# Altium footprint library SG__PCB_SOT_SC.PcbLib: 28 footprints (part 1 of 2)
Each footprint in its own frame and in the unit in brackets; x right, y up, seen from the top. Pads: shape width x height; smd on the part's side, far side on the other; paste and mask are expansions set on the pad; w line width, h text height; cw(c..) or ccw(c..) is an arc to the next point about the centre after c.
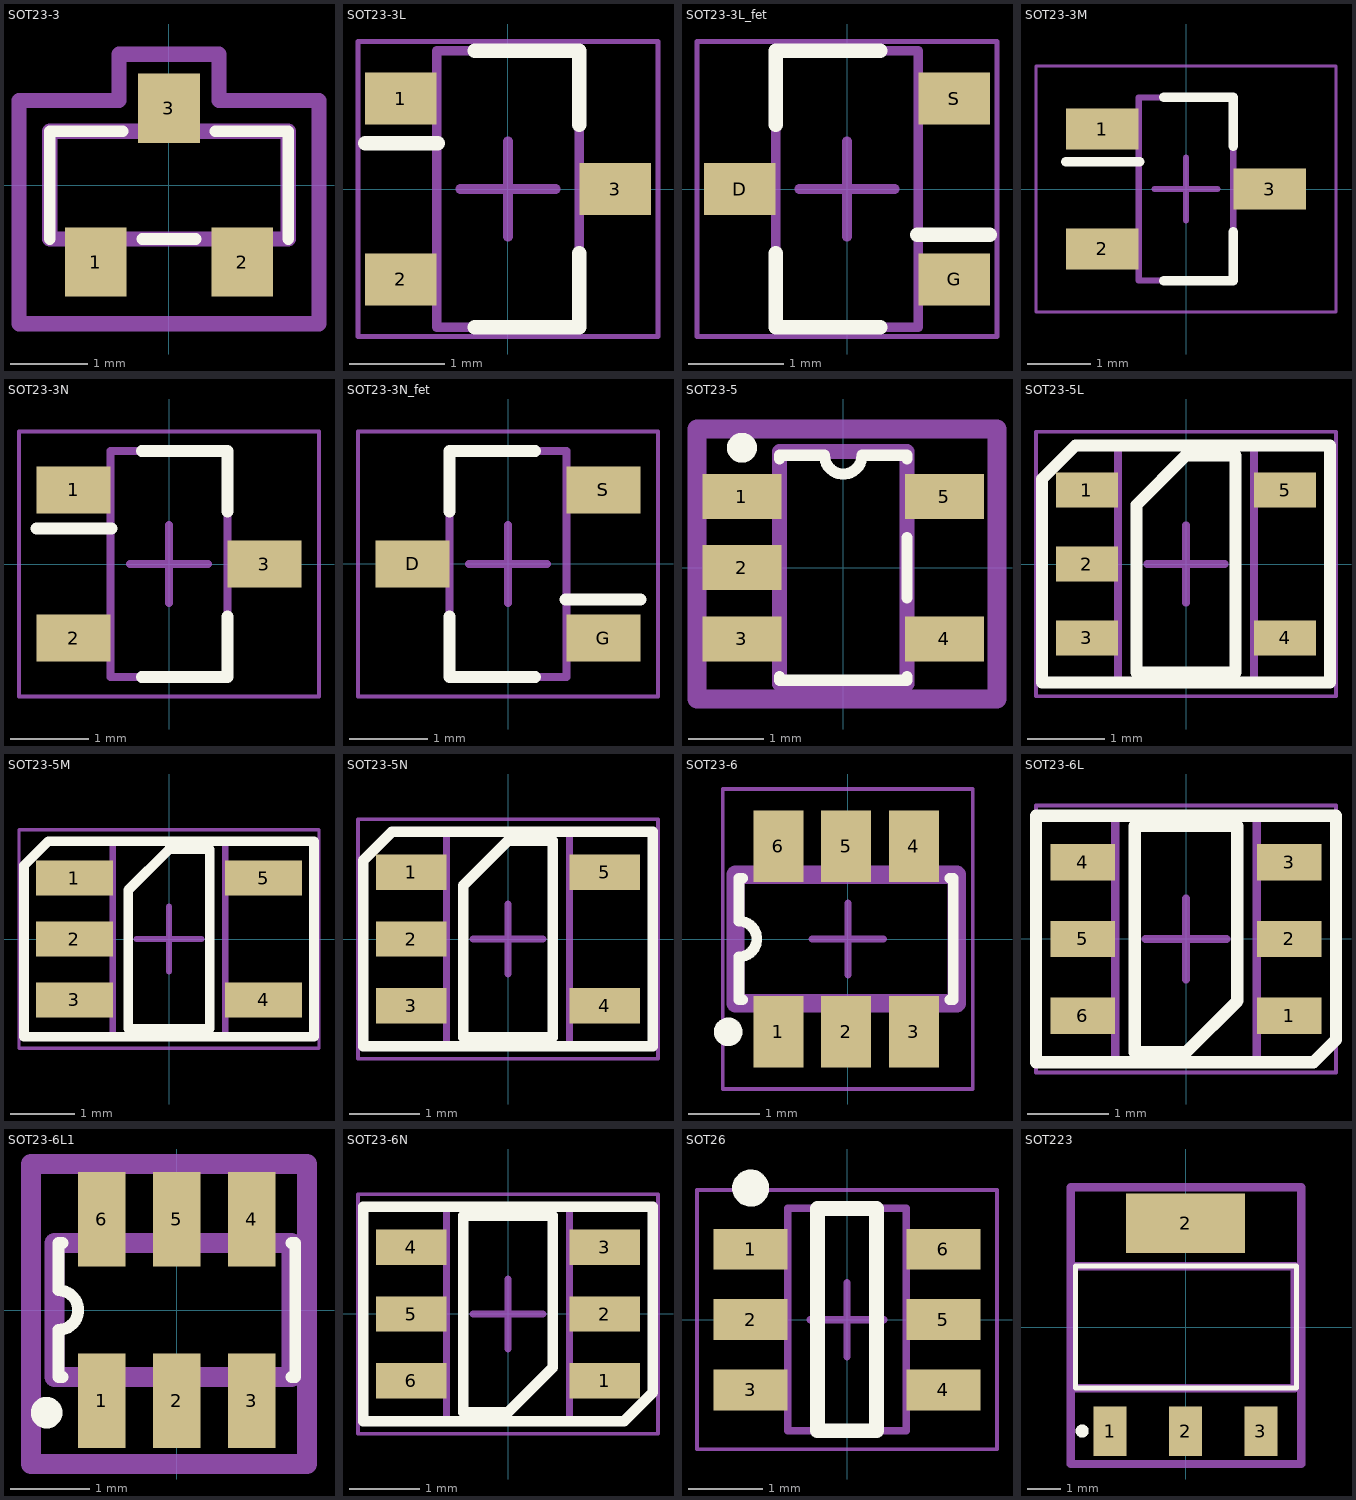
[diagram p0: the footprints below, top view; thin cyan lines are the x and y axes]

## SOT23-3 [mm]
pads (3):
  rect 0.8x0.9 smd mask+0.05: 1(-0.95,-1) 2(0.95,-1) 3(0,1)
Top Overlay:
  lines w0.15: -1.55,-0.7 -1.55,0.7 -0.6,0.7 ; -0.35,-0.7 0.35,-0.7 ; 0.6,0.7 1.55,0.7 1.55,-0.7
Assembly Top:
  lines w0.2: -1.55,-0.7 -1.55,0.7 1.55,0.7 1.55,-0.7 -1.55,-0.7
Courtyard Top:
  lines w0.2: -1.95,-1.8 -1.95,1.1 -0.65,1.1 -0.65,1.7 0.65,1.7 0.65,1.1 1.95,1.1 1.95,-1.8 -1.95,-1.8
3D body "SOT-23-1.STEP": height 0.99, standoff 0.01, extent -1.47,-1.334 1.45,1.214

## SOT23-3L [mm] "SOT23, 3-Leads, Body 2,90x2,45mm, Pitch 0,95mm, IPC High Density"
height 1.1
pads (3):
  rect 0.75x0.55 smd: 1(-1.125,0.95) 2(-1.125,-0.95) 3(1.125,0)
Top Overlay:
  lines w0.152: -1.499,0.483 -0.737,0.483 ; -0.35,-1.45 0.75,-1.45 0.75,-0.675 ; -0.35,1.45 0.75,1.45 0.75,0.675
Assembly Top:
  lines w0.1: -0.75,-1.45 -0.75,1.45 0.75,1.45 0.75,-1.45 -0.75,-1.45
Courtyard Top:
  lines w0.05: -1.575,-1.55 -1.575,1.55 1.575,1.55 1.575,-1.55 -1.575,-1.55
  lines w0.1: -0.5,0 0.5,0 ; 0,-0.5 0,0.5
3D body "SOT95P245X110-3L.step": height 1.1, standoff 0, extent -1.3,-1.45 1.3,1.45

## SOT23-3L_fet [mm] "SOT23, 3-Leads, Body 2,90x2,45mm, Pitch 0,95mm, IPC High Density"
height 1.1
pads (3):
  rect 0.75x0.55 smd: D(-1.125,0) G(1.125,-0.95) S(1.125,0.95)
Top Overlay:
  lines w0.152: -0.75,-0.675 -0.75,-1.45 0.35,-1.45 ; -0.75,0.675 -0.75,1.45 0.35,1.45 ; 0.737,-0.483 1.499,-0.483
Assembly Top:
  lines w0.1: -0.75,-1.45 0.75,-1.45 0.75,1.45 -0.75,1.45 -0.75,-1.45
Courtyard Top:
  lines w0.05: -1.575,-1.55 1.575,-1.55 1.575,1.55 -1.575,1.55 -1.575,-1.55
  lines w0.1: -0.5,0 0.5,0 ; 0,-0.5 0,0.5
3D body "SOT95P245X110-3L.step": height 1.1, standoff 0, extent -1.3,-1.45 1.3,1.45

## SOT23-3M [mm] "SOT23, 3-Leads, Body 2,90x2,45mm, Pitch 0,95mm, IPC Low Density"
height 1.1
pads (3):
  rect 1.15x0.65 smd: 1(-1.325,0.95) 2(-1.325,-0.95) 3(1.325,0)
Top Overlay:
  lines w0.152: -1.905,0.432 -0.737,0.432 ; -0.35,-1.45 0.75,-1.45 0.75,-0.675 ; -0.35,1.45 0.75,1.45 0.75,0.675
Assembly Top:
  lines w0.1: -0.75,-1.45 -0.75,1.45 0.75,1.45 0.75,-1.45 -0.75,-1.45
Courtyard Top:
  lines w0.05: -2.375,-1.95 -2.375,1.95 2.375,1.95 2.375,-1.95 -2.375,-1.95
  lines w0.1: -0.5,0 0.5,0 ; 0,-0.5 0,0.5
3D body "SOT95P245X110-3M.step": height 1.1, standoff 0, extent -1.3,-1.45 1.3,1.45

## SOT23-3N [mm] "SOT23, 3-Leads, Body 2,90x2,45mm, Pitch 0,95mm, IPC Medium Density"
height 1.1
pads (3):
  rect 0.95x0.6 smd: 1(-1.225,0.95) 2(-1.225,-0.95) 3(1.225,0)
Top Overlay:
  lines w0.152: -1.702,0.457 -0.737,0.457 ; -0.35,-1.45 0.75,-1.45 0.75,-0.675 ; -0.35,1.45 0.75,1.45 0.75,0.675
Assembly Top:
  lines w0.1: -0.75,-1.45 0.75,-1.45 0.75,1.45 -0.75,1.45 -0.75,-1.45
Courtyard Top:
  lines w0.05: -1.925,-1.7 1.925,-1.7 1.925,1.7 -1.925,1.7 -1.925,-1.7
  lines w0.1: -0.5,0 0.5,0 ; 0,-0.5 0,0.5
3D body "SOT95P245X110-3N.step": height 1.1, standoff 0, extent -1.3,-1.45 1.3,1.45

## SOT23-3N_fet [mm] "SOT23, 3-Leads, Body 2,90x2,45mm, Pitch 0,95mm, IPC Medium Density"
height 1.1
pads (3):
  rect 0.95x0.6 smd: D(-1.225,0) G(1.225,-0.95) S(1.225,0.95)
Top Overlay:
  lines w0.152: -0.75,-0.675 -0.75,-1.45 0.35,-1.45 ; -0.75,0.675 -0.75,1.45 0.35,1.45 ; 0.737,-0.457 1.702,-0.457
Assembly Top:
  lines w0.1: -0.75,-1.45 -0.75,1.45 0.75,1.45 0.75,-1.45 -0.75,-1.45
Courtyard Top:
  lines w0.05: -1.925,-1.7 -1.925,1.7 1.925,1.7 1.925,-1.7 -1.925,-1.7
  lines w0.1: -0.5,0 0.5,0 ; 0,-0.5 0,0.5
3D body "SOT95P245X110-3N.step": height 1.1, standoff 0, extent -1.3,-1.45 1.3,1.45

## SOT23-5 [mm]
pads (5):
  rect 1.05x0.6 smd mask+0.07: 1(-1.35,0.95) 2(-1.35,0) 3(-1.35,-0.95) 4(1.35,-0.95) 5(1.35,0.95)
Top Overlay:
  circle w0.2: c-1.35,1.6 r0.1
  lines w0.15: -0.85,-1.45 -0.85,-1.5 0.85,-1.5 0.85,-1.45 ; -0.85,1.45 -0.85,1.5 -0.25,1.5 ccw(c0,1.5) 0.25,1.5 0.85,1.5 0.85,1.45 ; 0.85,-0.4 0.85,0.4
Assembly Top:
  lines w0.2: -0.85,-1.55 -0.85,1.55 0.85,1.55 0.85,-1.55 -0.85,-1.55
Courtyard Top:
  lines w0.254: -1.95,-1.75 2.05,-1.75 2.05,1.85 -1.95,1.85 -1.95,-1.75
3D body "SOT23-5.STEP": height 1.24, standoff 0.14, extent -1.353,-1.463 1.447,1.437

## SOT23-5L [mm] "SOT23, 5-Leads, Body 2,90x2,80mm, Pitch 0,95mm, IPC High Density"
height 1.45
pads (5):
  rect 0.8x0.45 smd: 1(-1.275,0.95) 2(-1.275,0) 3(-1.275,-0.95) 4(1.275,-0.95) 5(1.275,0.95)
Top Overlay:
  lines w0.152: -1.854,-1.524 -1.854,1.092 -1.422,1.524 1.854,1.524 1.854,-1.524 0.356,-1.524 -1.854,-1.524 ; -0.635,-1.397 0.635,-1.397 0.635,1.397 0,1.397 -0.635,0.762 -0.635,-1.397
Assembly Top:
  lines w0.1: -0.875,-1.525 0.875,-1.525 0.875,1.525 -0.875,1.525 -0.875,-1.525
Courtyard Top:
  lines w0.05: -1.93,-1.702 1.93,-1.702 1.93,1.702 -1.93,1.702 -1.93,-1.702
  lines w0.1: -0.5,0 0.5,0 ; 0,-0.5 0,0.5
3D body "SOT95P280X145-5L.step": height 1.45, standoff 0, extent -1.5,-1.525 1.5,1.525

## SOT23-5M [mm] "SOT23, 5-Leads, Body 2,90x2,80mm, Pitch 0,95mm, IPC Low Density"
height 1.45
pads (5):
  rect 1.2x0.55 smd: 1(-1.475,0.95) 2(-1.475,0) 3(-1.475,-0.95) 4(1.475,-0.95) 5(1.475,0.95)
Top Overlay:
  lines w0.152: -2.261,-1.524 -2.261,1.143 -1.88,1.524 2.261,1.524 2.261,-1.524 0.356,-1.524 -2.261,-1.524 ; -0.635,-1.397 0.635,-1.397 0.635,1.397 0,1.397 -0.635,0.762 -0.635,-1.397
Assembly Top:
  lines w0.1: -0.875,-1.525 -0.875,1.525 0.875,1.525 0.875,-1.525 -0.875,-1.525
Courtyard Top:
  lines w0.05: -2.337,-1.702 -2.337,1.702 2.337,1.702 2.337,-1.702 -2.337,-1.702
  lines w0.1: -0.5,0 0.5,0 ; 0,-0.5 0,0.5
3D body "SOT95P280X145-5M.step": height 1.45, standoff 0, extent -1.5,-1.525 1.5,1.525

## SOT23-5N [mm] "SOT23, 5-Leads, Body 2,90x2,80mm, Pitch 0,95mm, IPC Medium Density"
height 1.45
pads (5):
  rect 1x0.5 smd: 1(-1.375,0.95) 2(-1.375,0) 3(-1.375,-0.95) 4(1.375,-0.95) 5(1.375,0.95)
Top Overlay:
  lines w0.152: -2.057,-1.524 0.356,-1.524 2.057,-1.524 2.057,1.524 -1.651,1.524 -2.057,1.118 -2.057,-1.524 ; -0.635,-1.397 -0.635,0.762 0,1.397 0.635,1.397 0.635,-1.397 -0.635,-1.397
Assembly Top:
  lines w0.1: -0.875,-1.525 -0.875,1.525 0.875,1.525 0.875,-1.525 -0.875,-1.525
Courtyard Top:
  lines w0.05: -2.134,-1.702 2.134,-1.702 2.134,1.702 -2.134,1.702 -2.134,-1.702
  lines w0.1: -0.5,0 0.5,0 ; 0,-0.5 0,0.5
3D body "SOT95P280X145-5N.step": height 1.45, standoff 0, extent -1.5,-1.525 1.5,1.525

## SOT23-6 [mm]
pads (6):
  rect 0.7x1 smd mask+0.05: 1(-0.975,-1.3) 2(-0.025,-1.3) 3(0.925,-1.3) 4(0.925,1.3) 5(-0.025,1.3) 6(-0.975,1.3)
Top Overlay:
  circle w0.2: c-1.675,-1.3 r0.1
  lines w0.15: -1.475,-0.85 -1.525,-0.85 -1.525,-0.25 ccw(c-1.525,0) -1.525,0.25 -1.525,0.85 -1.475,0.85 ; 1.425,-0.85 1.475,-0.85 1.475,0.85 1.425,0.85
Assembly Top:
  lines w0.254: -1.575,-0.9 1.525,-0.9 1.525,0.9 -1.575,0.9 -1.575,-0.9
Courtyard Top:
  lines w0.05: -1.75,-2.1 1.75,-2.1 1.75,2.1 -1.75,2.1 -1.75,-2.1
  lines w0.1: -0.5,0 0.5,0 ; 0,-0.5 0,0.5
3D body "SOT-23-6.step": height 1.09, standoff 0, extent -1.407,-1.243 1.387,1.183

## SOT23-6L [mm] "SOT23, 5-Leads, Body 2,90x2,80mm, Pitch 0,95mm, IPC High Density"
height 1.45
pads (6):
  rect 0.8x0.45 smd: 1(1.275,-0.95) 2(1.275,0) 3(1.275,0.95) 4(-1.275,0.95) 5(-1.275,0) 6(-1.275,-0.95)
Top Overlay:
  lines w0.152: -1.854,-1.524 1.576,-1.524 1.854,-1.246 1.854,1.524 -0.356,1.524 -1.854,1.524 -1.854,-1.524 ; -0.635,-1.4 -0.635,1.397 0.635,1.397 0.635,-0.765 0,-1.4 -0.635,-1.4
Assembly Top:
  lines w0.1: -0.875,-1.525 -0.875,1.525 0.875,1.525 0.875,-1.525 -0.875,-1.525
Courtyard Top:
  lines w0.05: -1.854,-1.65 -1.854,1.65 1.854,1.65 1.854,-1.65 -1.854,-1.65
  lines w0.1: -0.5,0 0.5,0 ; 0,-0.5 0,0.5
3D body "SOT-23-6.step": height 1.09, standoff 0, extent -1.243,-1.387 1.183,1.407

## SOT23-6L1 [mm]
pads (6):
  rect 0.6x1.2 smd mask+0.05: 1(-0.95,-1.15) 2(0,-1.15) 3(0.95,-1.15) 4(0.95,1.15) 5(0,1.15) 6(-0.95,1.15)
Top Overlay:
  circle w0.2: c-1.65,-1.3 r0.1
  lines w0.15: -1.45,-0.85 -1.5,-0.85 -1.5,-0.25 ccw(c-1.5,0) -1.5,0.25 -1.5,0.85 -1.45,0.85 ; 1.45,-0.85 1.5,-0.85 1.5,0.85 1.45,0.85
Assembly Top:
  lines w0.254: -1.55,-0.85 1.45,-0.85 1.45,0.85 -1.55,0.85 -1.55,-0.85
Courtyard Top:
  lines w0.254: -1.85,-1.95 1.65,-1.95 1.65,1.85 -1.85,1.85 -1.85,-1.95
3D body "SOT-23-6.step": height 1.09, standoff 0, extent -1.382,-1.243 1.412,1.183

## SOT23-6N [mm] "SOT23, 6-Leads, Body 2,90x2,80mm, Pitch 0,95mm, IPC Medium Density"
height 1.45
pads (6):
  rect 1x0.5 smd: 1(1.375,-0.95) 2(1.375,0) 3(1.375,0.95) 4(-1.375,0.95) 5(-1.375,0) 6(-1.375,-0.95)
Top Overlay:
  lines w0.152: -2.057,-1.524 1.651,-1.524 2.057,-1.118 2.057,1.524 -0.356,1.524 -2.057,1.524 -2.057,-1.524 ; -0.635,-1.397 -0.635,1.397 0.635,1.397 0.635,-0.762 0,-1.397 -0.635,-1.397
Assembly Top:
  lines w0.1: -0.875,-1.525 -0.875,1.525 0.875,1.525 0.875,-1.525 -0.875,-1.525
Courtyard Top:
  lines w0.05: -2.134,-1.702 -2.134,1.702 2.134,1.702 2.134,-1.702 -2.134,-1.702
  lines w0.1: -0.5,0 0.5,0 ; 0,-0.5 0,0.5
3D body "SOT95P280X145-5N.step": height 1.45, standoff 0, extent -1.5,-1.525 1.5,1.525

## SOT26 [mm] "SOT, 6-Leads, Body 2,95x2,75mm, Pitch 0,95mm, IPC Medium Density"
height 1.1
pads (6):
  rect 1x0.55 smd: 1(-1.3,0.95) 2(-1.3,0) 3(-1.3,-0.95) 4(1.3,-0.95) 5(1.3,0) 6(1.3,0.95)
Top Overlay:
  circle w0.25: c-1.3,1.775 r0.125
  lines w0.2: -0.4,-1.5 -0.4,1.5 0.4,1.5 0.4,-1.5 -0.4,-1.5
Assembly Top:
  lines w0.1: -0.8,-1.5 0.8,-1.5 0.8,1.5 -0.8,1.5 -0.8,-1.5
Courtyard Top:
  lines w0.05: -2.025,-1.75 2.025,-1.75 2.025,1.75 -2.025,1.75 -2.025,-1.75
  lines w0.1: -0.5,0 0.5,0 ; 0,-0.5 0,0.5
3D body "SOT26.step": height 1.4, standoff 0, extent -1.5,-1.55 1.5,1.55

## SOT223 [mm]
pads (4):
  rect 1x1.5 smd mask+0.05: 1(-2.286,-3.15) 2(0,-3.15) 3(2.286,-3.15)
  rect 3.6x1.8 smd mask+0.05: 2(0,3.15)
Top Overlay:
  circle w0.2: c-3.136,-3.15 r0.1
  lines w0.15: -3.336,-1.85 3.364,-1.85 3.364,1.85 -3.336,1.85 -3.336,-1.85
Assembly Top:
  lines w0.254: -3.386,-1.85 3.314,-1.85 3.314,1.85 -3.386,1.85 -3.386,-1.85
Courtyard Top:
  lines w0.254: -3.486,-4.15 3.514,-4.15 3.514,4.25 -3.486,4.25 -3.486,-4.15
3D body "sot-223.step": height 1.64, standoff -0.04, extent -3.25,-3.568 3.25,3.364